# EAGLE library part UBLOX-LEA-6 (library Explore Labs EAGLE Library)
u-blox LEA-6 GPS Module The LEA-6 module series is a family of stand-alone GPS receivers featuring the high performance u-blox 6 positioning engine. These versatile receivers feature an extensive and flexible range of functionality, connectivity and cost savings options. LEA-6 modules maintain the industry standard 17.0 x 22.4mm form factor of the LEA-5 series and have been designed to allow simple migration. Their ease of integration results in reduced costs and short time to market for a wide range of automotive, consumer and industrial applications. The 50-channel u-blox 6 positioning engine boasts a Time-To-First-Fix (TTFF) of under 1 second. The dedicated acquisition engine, with over 2 million correlators, is capable of massive parallel time/frequency space searches, enabling it to find satellites instantly. Innovative design and technology suppresses interference sources and mitigates multipath effects, giving LEA-6 GPS receivers excellent navigation performance even in the most challenging environments.
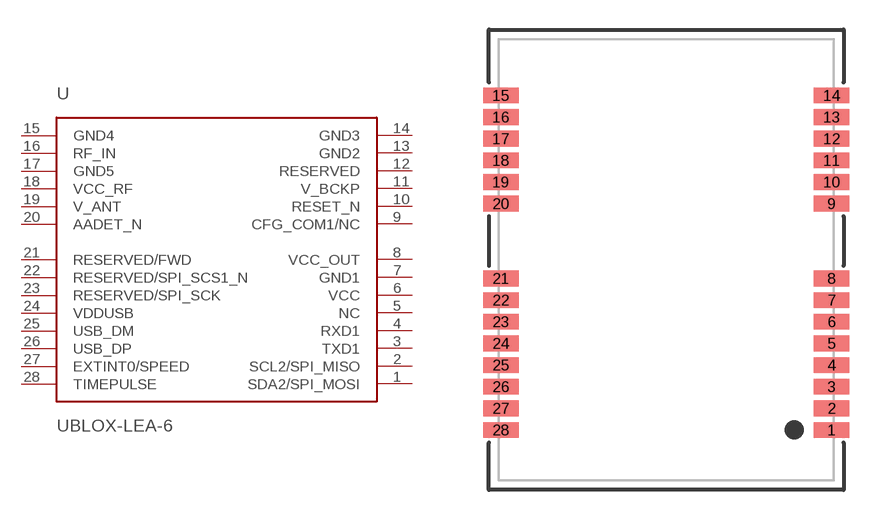
[diagram p14: symbol with the pads of UBLOX-LEA-6; footprint UBLOX-LEA-6]

Designator prefix -

## UBLOX-LEA-6 (DATASHEET: http://www.u-blox.com/images/downloads/Product_Docs/LEA-6_DataSheet_%28GPS.G6-HW-09004%29.pdf; LINK: http://www.u-blox.com/en/gps-modules/pvt-modules/lea-6-family.html; MFGPN: LEA-6)  [UBLOX-LEA-6]
1  SDA2/SPI_MOSI
2  SCL2/SPI_MISO
3  TXD1
4  RXD1
5  NC
6  VCC
7  GND1
8  VCC_OUT
9  CFG_COM1/NC
10  RESET_N
11  V_BCKP
12  RESERVED
13  GND2
14  GND3
15  GND4
16  RF_IN
17  GND5
18  VCC_RF
19  V_ANT
20  AADET_N
21  RESERVED/FWD
22  RESERVED/SPI_SCS1_N
23  RESERVED/SPI_SCK
24  VDDUSB
25  USB_DM
26  USB_DP
27  EXTINT0/SPEED
28  TIMEPULSE

## Footprint UBLOX-LEA-6 (pad centres in mm)
smd 1.8 x 0.8: 1 8.4,-8.65; 2 8.4,-7.55; 3 8.4,-6.45; 4 8.4,-5.35; 5 8.4,-4.25; 6 8.4,-3.15; 7 8.4,-2.05; 8 8.4,-0.95; 9 8.4,2.85; 10 8.4,3.95; 11 8.4,5.05; 12 8.4,6.15; 13 8.4,7.25; 14 8.4,8.35; 15 -8.4,8.35; 16 -8.4,7.25; 17 -8.4,6.15; 18 -8.4,5.05; 19 -8.4,3.95; 20 -8.4,2.85; 21 -8.4,-0.95; 22 -8.4,-2.05; 23 -8.4,-3.15; 24 -8.4,-4.25; 25 -8.4,-5.35; 26 -8.4,-6.45; 27 -8.4,-7.55; 28 -8.4,-8.65